# EAGLE library part 74VHC125 (library bytewerk-logic)
Quad tristate buffer
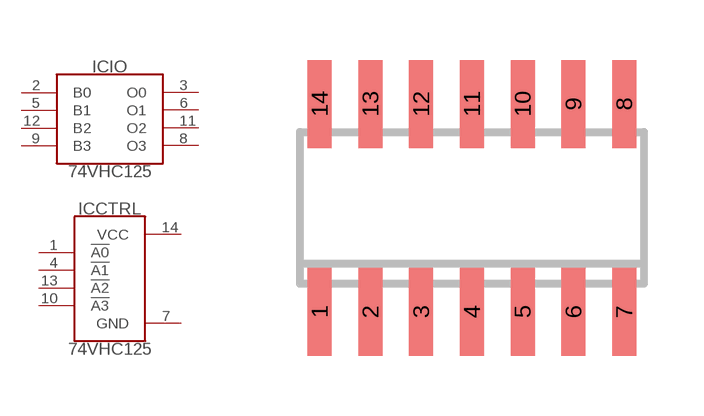
[diagram p0: symbol with the pads of SO-14; footprint SO-14]

Designator prefix IC; gates IO=74HVC125-IO CTRL=74HVC125-CTRL

## 74VHC125  [SO-14]
1  CTRL:!A0!  in
2  IO:B0  in
3  IO:O0  out
4  CTRL:!A1!  in
5  IO:B1  in
6  IO:O1  out
7  CTRL:GND  pwr
8  IO:O3  out
9  IO:B3  in
10  CTRL:!A3!  in
11  IO:O2  out
12  IO:B2  in
13  CTRL:!A2!  in
14  CTRL:VCC  pwr

## Footprint SO-14 (pad centres in mm)
Small Outline Narrow Plastic Gull Wing 150-mil body, package type SL
smd 0.6 x 2.2: 1 -3.81,-2.6; 2 -2.54,-2.6; 3 -1.27,-2.6; 4 0,-2.6; 5 1.27,-2.6; 6 2.54,-2.6; 7 3.81,-2.6; 8 3.81,2.6; 9 2.54,2.6; 10 1.27,2.6; 11 0,2.6; 12 -1.27,2.6; 13 -2.54,2.6; 14 -3.81,2.6